# EAGLE library part HCF40109B (library imu1)
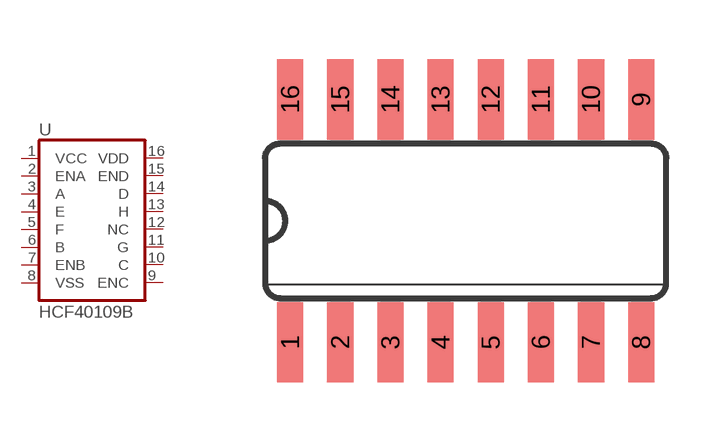
[diagram p6: symbol with the pads of SO16; footprint SO16]

Designator prefix -

## HCF40109BM  [SO16]
1  VCC  in
2  ENA  in
3  A  out
4  E  in
5  F  in
6  B  pas
7  ENB  pas
8  VSS  pwr
9  ENC  pwr
10  C  pas
11  G  in
12  NC
13  H
14  D
15  END
16  VDD  out

## Footprint SO16 (pad centres in mm)
Small Outline Package 16
smd 0.66 x 2.032: 1 -4.445,-3.073; 2 -3.175,-3.073; 3 -1.905,-3.073; 4 -0.635,-3.073; 5 0.635,-3.073; 6 1.905,-3.073; 7 3.175,-3.073; 8 4.445,-3.073; 9 4.445,3.073; 10 3.175,3.073; 11 1.905,3.073; 12 0.635,3.073; 13 -0.635,3.073; 14 -1.905,3.073; 15 -3.175,3.073; 16 -4.445,3.073